# Altium footprint library Fasteners.PcbLib: 2 footprints
Each footprint in its own frame and in the unit in brackets; x right, y up, seen from the top. Pads: shape width x height; smd on the part's side, far side on the other; paste and mask are expansions set on the pad; w line width, h text height; cw(c..) or ccw(c..) is an arc to the next point about the centre after c.
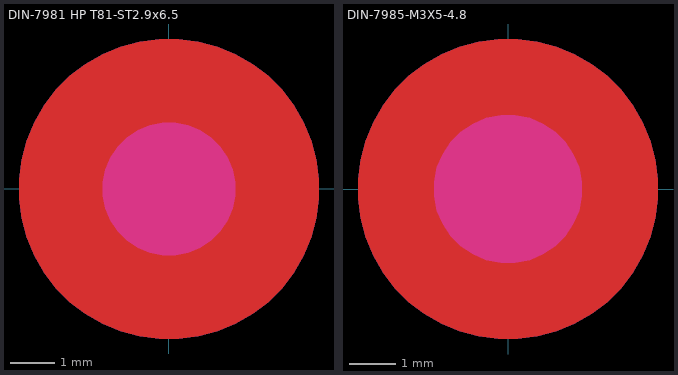
[diagram p0: the footprints below, top view; thin cyan lines are the x and y axes]

## DIN-7981 HP T81-ST2.9x6.5 [mm] "Mounting hole for self-screw DIN-7981 HP T81-ST2.9"
height 2.2
Top Layer:
  pour cut-out: 0,-3.4 -0.223,-3.4 -0.665,-3.342 -1.095,-3.226 -1.507,-3.056 -1.893,-2.833 -2.247,-2.562 -2.562,-2.247 -2.833,-1.893 -3.056,-1.507 -3.226,-1.095 -3.342,-0.665 -3.4,-0.223 -3.4,0 -3.4,0.223 -3.342,0.665 -3.226,1.095 -3.056,1.507 -2.833,1.893 -2.562,2.247 -2.247,2.562 -1.893,2.833 -1.507,3.056 -1.095,3.226 -0.665,3.342 -0.223,3.4 0,3.4 0.223,3.4 0.665,3.342 1.095,3.226 1.507,3.056 1.893,2.833 2.247,2.562 2.562,2.247 2.833,1.893 3.056,1.507 3.226,1.095 3.342,0.665 3.4,0.223 3.4,0 3.4,-0.223 3.342,-0.665 3.226,-1.095 3.056,-1.507 2.833,-1.893 2.562,-2.247 2.247,-2.562 1.893,-2.833 1.507,-3.056 1.095,-3.226 0.665,-3.342 0.223,-3.4
Bottom Layer:
  pour cut-out: 0,-3.4 -0.223,-3.4 -0.665,-3.342 -1.095,-3.226 -1.507,-3.056 -1.893,-2.833 -2.247,-2.562 -2.562,-2.247 -2.833,-1.893 -3.056,-1.507 -3.226,-1.095 -3.342,-0.665 -3.4,-0.223 -3.4,0 -3.4,0.223 -3.342,0.665 -3.226,1.095 -3.056,1.507 -2.833,1.893 -2.562,2.247 -2.247,2.562 -1.893,2.833 -1.507,3.056 -1.095,3.226 -0.665,3.342 -0.223,3.4 0,3.4 0.223,3.4 0.665,3.342 1.095,3.226 1.507,3.056 1.893,2.833 2.247,2.562 2.562,2.247 2.833,1.893 3.056,1.507 3.226,1.095 3.342,0.665 3.4,0.223 3.4,0 3.4,-0.223 3.342,-0.665 3.226,-1.095 3.056,-1.507 2.833,-1.893 2.562,-2.247 2.247,-2.562 1.893,-2.833 1.507,-3.056 1.095,-3.226 0.665,-3.342 0.223,-3.4
Top Solder:
  region: 0,-3 -0.197,-3 -0.587,-2.949 -0.966,-2.847 -1.33,-2.696 -1.67,-2.5 -1.982,-2.26 -2.26,-1.982 -2.5,-1.67 -2.696,-1.33 -2.847,-0.966 -2.949,-0.587 -3,-0.197 -3,0 -3,0.197 -2.949,0.587 -2.847,0.966 -2.696,1.33 -2.5,1.67 -2.26,1.982 -1.982,2.26 -1.67,2.5 -1.33,2.696 -0.966,2.847 -0.587,2.949 -0.197,3 0,3 0.197,3 0.587,2.949 0.966,2.847 1.33,2.696 1.67,2.5 1.982,2.26 2.26,1.982 2.5,1.67 2.696,1.33 2.847,0.966 2.949,0.587 3,0.197 3,0 3,-0.197 2.949,-0.587 2.847,-0.966 2.696,-1.33 2.5,-1.67 2.26,-1.982 1.982,-2.26 1.67,-2.5 1.33,-2.696 0.966,-2.847 0.587,-2.949 0.197,-3
Bottom Solder:
  region: 0,-3 -0.197,-3 -0.587,-2.949 -0.966,-2.847 -1.33,-2.696 -1.67,-2.5 -1.982,-2.26 -2.26,-1.982 -2.5,-1.67 -2.696,-1.33 -2.847,-0.966 -2.949,-0.587 -3,-0.197 -3,0 -3,0.197 -2.949,0.587 -2.847,0.966 -2.696,1.33 -2.5,1.67 -2.26,1.982 -1.982,2.26 -1.67,2.5 -1.33,2.696 -0.966,2.847 -0.587,2.949 -0.197,3 0,3 0.197,3 0.587,2.949 0.966,2.847 1.33,2.696 1.67,2.5 1.982,2.26 2.26,1.982 2.5,1.67 2.696,1.33 2.847,0.966 2.949,0.587 3,0.197 3,0 3,-0.197 2.949,-0.587 2.847,-0.966 2.696,-1.33 2.5,-1.67 2.26,-1.982 1.982,-2.26 1.67,-2.5 1.33,-2.696 0.966,-2.847 0.587,-2.949 0.197,-3
Keep-Out Layer:
  board cut-out: 0,-1.5 -0.148,-1.5 -0.438,-1.442 -0.711,-1.329 -0.956,-1.165 -1.165,-0.956 -1.329,-0.711 -1.442,-0.438 -1.5,-0.148 -1.5,0 -1.5,0.148 -1.442,0.438 -1.329,0.711 -1.165,0.956 -0.956,1.165 -0.711,1.329 -0.438,1.442 -0.148,1.5 0,1.5 0.148,1.5 0.438,1.442 0.711,1.329 0.956,1.165 1.165,0.956 1.329,0.711 1.442,0.438 1.5,0.148 1.5,0 1.5,-0.148 1.442,-0.438 1.329,-0.711 1.165,-0.956 0.956,-1.165 0.711,-1.329 0.438,-1.442 0.148,-1.5
3D body "TR Fastenings Ltd-2_9mmX6_5mm.STEP": height 2.19, standoff -6.49, extent -2.8,-2.8 2.8,2.8

## DIN-7985-M3X5-4.8 [mm] "Винты с полуцилиндрической головкой и  крестообразным шлицем"
height 2.6
Top Layer:
  pour cut-out: 0,-3.25 -0.213,-3.25 -0.635,-3.194 -1.047,-3.084 -1.441,-2.921 -1.809,-2.708 -2.147,-2.449 -2.449,-2.147 -2.708,-1.809 -2.921,-1.441 -3.084,-1.047 -3.194,-0.635 -3.25,-0.213 -3.25,0 -3.25,0.213 -3.194,0.635 -3.084,1.047 -2.921,1.441 -2.708,1.809 -2.449,2.147 -2.147,2.449 -1.809,2.708 -1.441,2.921 -1.047,3.084 -0.635,3.194 -0.213,3.25 0,3.25 0.213,3.25 0.635,3.194 1.047,3.084 1.441,2.921 1.809,2.708 2.147,2.449 2.449,2.147 2.708,1.809 2.921,1.441 3.084,1.047 3.194,0.635 3.25,0.213 3.25,0 3.25,-0.213 3.194,-0.635 3.084,-1.047 2.921,-1.441 2.708,-1.809 2.449,-2.147 2.147,-2.449 1.809,-2.708 1.441,-2.921 1.047,-3.084 0.635,-3.194 0.213,-3.25
Bottom Layer:
  pour cut-out: 0,-3.25 -0.213,-3.25 -0.635,-3.194 -1.047,-3.084 -1.441,-2.921 -1.809,-2.708 -2.147,-2.449 -2.449,-2.147 -2.708,-1.809 -2.921,-1.441 -3.084,-1.047 -3.194,-0.635 -3.25,-0.213 -3.25,0 -3.25,0.213 -3.194,0.635 -3.084,1.047 -2.921,1.441 -2.708,1.809 -2.449,2.147 -2.147,2.449 -1.809,2.708 -1.441,2.921 -1.047,3.084 -0.635,3.194 -0.213,3.25 0,3.25 0.213,3.25 0.635,3.194 1.047,3.084 1.441,2.921 1.809,2.708 2.147,2.449 2.449,2.147 2.708,1.809 2.921,1.441 3.084,1.047 3.194,0.635 3.25,0.213 3.25,0 3.25,-0.213 3.194,-0.635 3.084,-1.047 2.921,-1.441 2.708,-1.809 2.449,-2.147 2.147,-2.449 1.809,-2.708 1.441,-2.921 1.047,-3.084 0.635,-3.194 0.213,-3.25
Top Solder:
  region: 0,-3.25 -0.213,-3.25 -0.635,-3.194 -1.047,-3.084 -1.441,-2.921 -1.809,-2.708 -2.147,-2.449 -2.449,-2.147 -2.708,-1.809 -2.921,-1.441 -3.084,-1.047 -3.194,-0.635 -3.25,-0.213 -3.25,0 -3.25,0.213 -3.194,0.635 -3.084,1.047 -2.921,1.441 -2.708,1.809 -2.449,2.147 -2.147,2.449 -1.809,2.708 -1.441,2.921 -1.047,3.084 -0.635,3.194 -0.213,3.25 0,3.25 0.213,3.25 0.635,3.194 1.047,3.084 1.441,2.921 1.809,2.708 2.147,2.449 2.449,2.147 2.708,1.809 2.921,1.441 3.084,1.047 3.194,0.635 3.25,0.213 3.25,0 3.25,-0.213 3.194,-0.635 3.084,-1.047 2.921,-1.441 2.708,-1.809 2.449,-2.147 2.147,-2.449 1.809,-2.708 1.441,-2.921 1.047,-3.084 0.635,-3.194 0.213,-3.25
Bottom Solder:
  region: 0,-3.25 -0.213,-3.25 -0.635,-3.194 -1.047,-3.084 -1.441,-2.921 -1.809,-2.708 -2.147,-2.449 -2.449,-2.147 -2.708,-1.809 -2.921,-1.441 -3.084,-1.047 -3.194,-0.635 -3.25,-0.213 -3.25,0 -3.25,0.213 -3.194,0.635 -3.084,1.047 -2.921,1.441 -2.708,1.809 -2.449,2.147 -2.147,2.449 -1.809,2.708 -1.441,2.921 -1.047,3.084 -0.635,3.194 -0.213,3.25 0,3.25 0.213,3.25 0.635,3.194 1.047,3.084 1.441,2.921 1.809,2.708 2.147,2.449 2.449,2.147 2.708,1.809 2.921,1.441 3.084,1.047 3.194,0.635 3.25,0.213 3.25,0 3.25,-0.213 3.194,-0.635 3.084,-1.047 2.921,-1.441 2.708,-1.809 2.449,-2.147 2.147,-2.449 1.809,-2.708 1.441,-2.921 1.047,-3.084 0.635,-3.194 0.213,-3.25
Keep-Out Layer:
  board cut-out: 0,-1.6 -0.158,-1.6 -0.467,-1.539 -0.758,-1.418 -1.02,-1.243 -1.243,-1.02 -1.418,-0.758 -1.539,-0.467 -1.6,-0.158 -1.6,0 -1.6,0.158 -1.539,0.467 -1.418,0.758 -1.243,1.02 -1.02,1.243 -0.758,1.418 -0.467,1.539 -0.158,1.6 0,1.6 0.158,1.6 0.467,1.539 0.758,1.418 1.02,1.243 1.243,1.02 1.418,0.758 1.539,0.467 1.6,0.158 1.6,0 1.6,-0.158 1.539,-0.467 1.418,-0.758 1.243,-1.02 1.02,-1.243 0.758,-1.418 0.467,-1.539 0.158,-1.6
3D body "TR Fastenings Ltd-M3X5MM.step": height 2.39, standoff -4.99, extent -3.133,-3.133 3.133,3.133